# Altium footprint library PX4FMUv2.4.6.PcbLib: 53 footprints (part 2 of 4)
Each footprint in its own frame and in the unit in brackets; x right, y up, seen from the top. Pads: shape width x height; smd on the part's side, far side on the other; paste and mask are expansions set on the pad; w line width, h text height; cw(c..) or ccw(c..) is an arc to the next point about the centre after c.
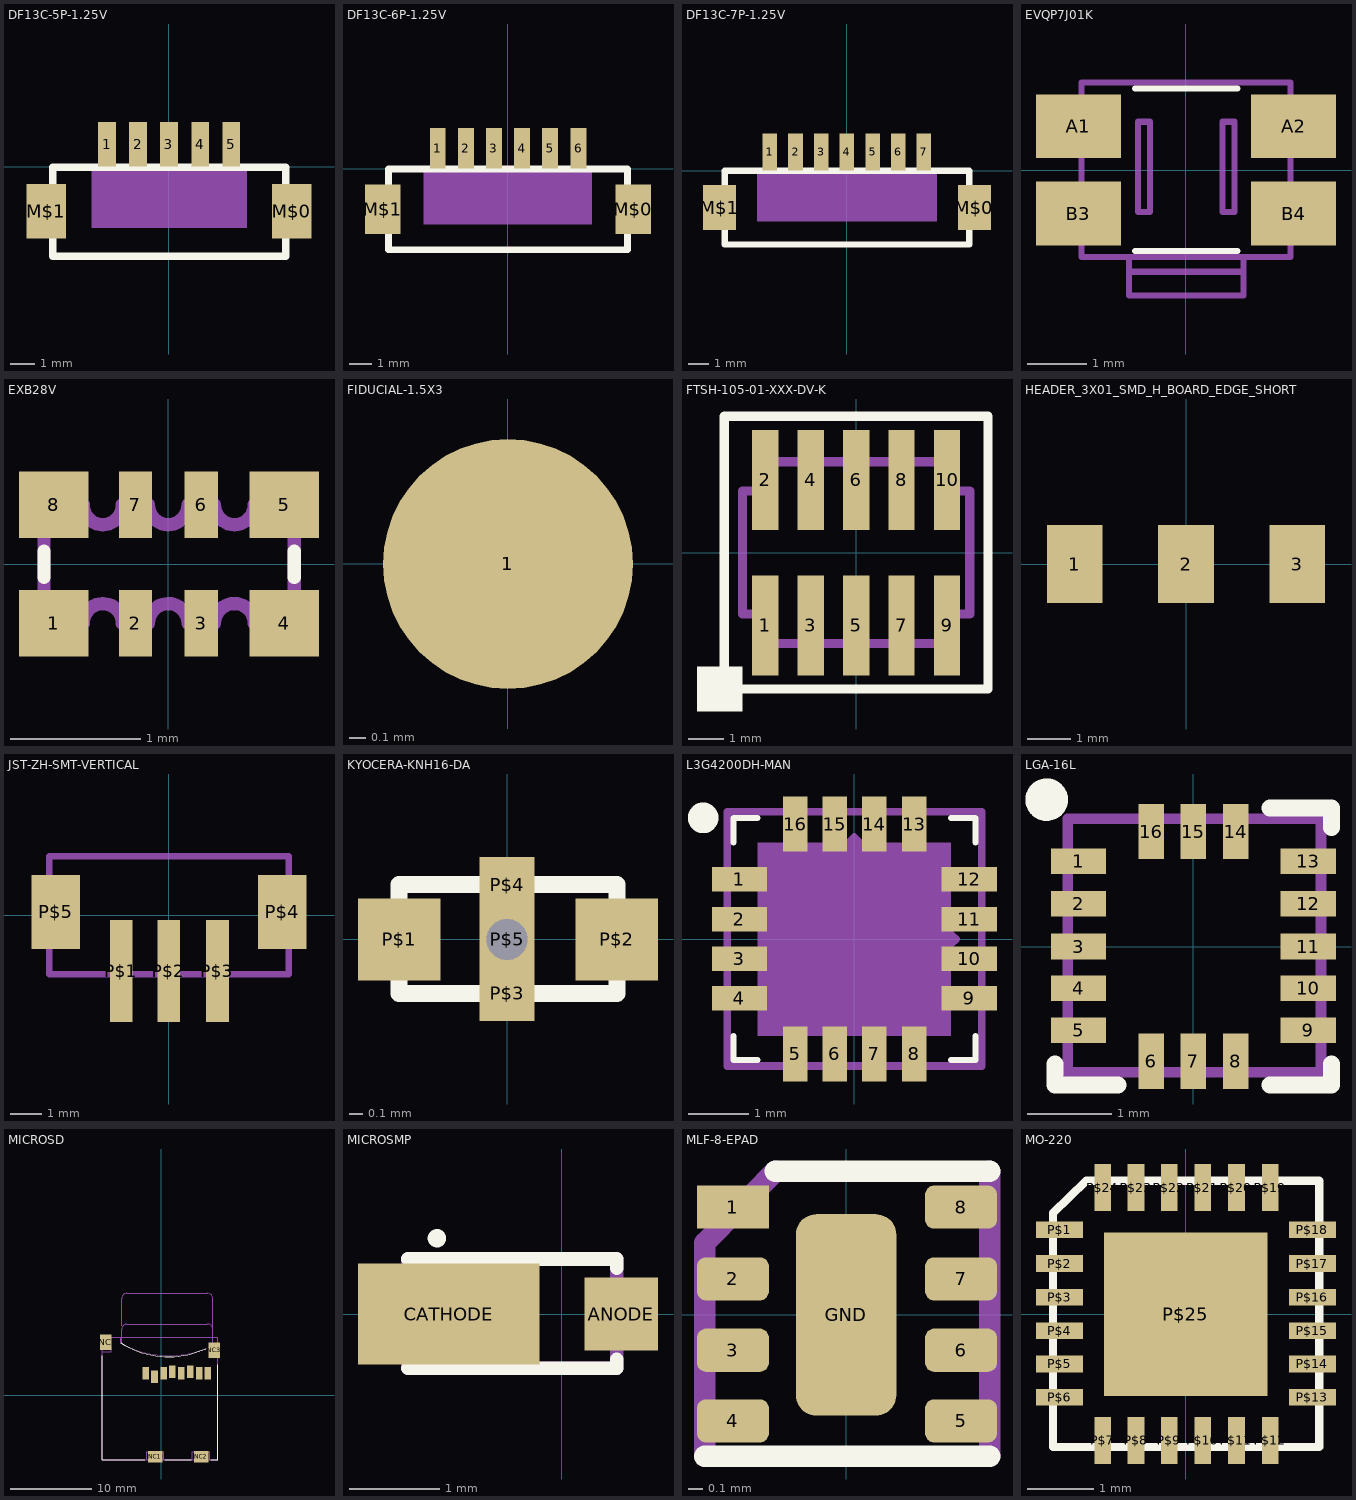
[diagram p1: the footprints below, top view; thin cyan lines are the x and y axes]

## DF13C-5P-1.25V [mil] "DF13C-5P-1.25V"
pads (7):
  rect 28x71 smd: 1(-98.43,36) 2(-49.21,36) 3(0,36) 4(50,36) 5(99,36)
  rect 63x87 smd: M$0(195,-70.87) M$1(-194.88,-70.87)
Top Overlay:
  lines w12: -185.04,-142.13 186,-142.13 186,-0.39 -185.04,-0.39 -185.04,-142.13
  text "." at -161.42,61 h155
Mechanical 16:
  rectangle: -123.03,-97.24 124,-3.94

## DF13C-6P-1.25V [mil] "DF13C-6P-1.25V"
pads (8):
  rect 28x71 smd: 1(-123.03,36) 2(-73.82,36) 3(-24.61,36) 4(25,36) 5(74,36) 6(124,36)
  rect 63x87 smd: M$0(220,-70.87) M$1(-219.49,-70.87)
Top Overlay:
  lines w12: -209.65,-141.73 210,-141.73 210,0 -209.65,0 -209.65,-141.73
  text "." at -186.02,61 h155
Mechanical 16:
  rectangle: -147.64,-97.44 148,-3.94

## DF13C-7P-1.25V [mil] "DF13C-7P-1.25V"
pads (9):
  rect 28x71 smd: 1(-147.64,36) 2(-98.43,36) 3(-49.21,36) 4(0,36) 5(50,36) 6(99,36) 7(148,36)
  rect 63x87 smd: M$0(245,-70.87) M$1(-244.09,-70.87)
Top Overlay:
  lines w12: -234.25,-142.13 235,-142.13 235,-0.39 -234.25,-0.39 -234.25,-142.13
  text "." at -210.63,61 h155
Mechanical 16:
  rectangle: -172.24,-97.24 173,-3.94

## EVQP7J01K [mil] "EVQP7J01K"
pads (4):
  rect 56x42 smd: A1(-70.87,29) A2(71,29) B3(-70.87,-28.54) B4(71,-28.54)
Top Overlay:
  lines w4: -82.68,20 -82.68,24 ; -33.46,-53.15 34,-53.15 ; -33.46,54 34,54
Mechanical 16:
  lines w4: -82.68,20 -70.87,20 ; -82.68,24 -90.55,24 -90.55,40 -70.87,40 ; -70.87,-39.37 -90.55,-39.37 -90.55,-23.62 -82.68,-23.62 -82.68,-19.68 -70.87,-19.68 ; 38,-66.93 -37.4,-66.93 ; 71,-39.37 91,-39.37 91,-23.62 83,-23.62 83,-19.68 71,-19.68 ; 71,20 83,20 83,24 91,24 91,40 71,40 ; -37.4,-66.93 -37.4,-82.68 38,-82.68 38,-57.09 ; -37.4,-66.93 -37.4,-57.09 ; -37.4,-57.09 -68.9,-57.09 -68.9,58 69,58 69,-57.09 38,-57.09 ; -37.4,-57.09 38,-57.09 ; -31.5,-27.56 -31.5,32 -23.62,32 -23.62,-27.56 -31.5,-27.56 ; 24,-27.56 24,32 32,32 32,-27.56 24,-27.56

## EXB28V [mil] "EXB28V"
pads (8):
  rect 21x20 smd: 1(-34.45,-17.72) 4(35,-17.72) 5(35,18) 8(-34.45,18)
  rect 10x20 smd: 2(-9.84,-17.72) 3(10,-17.72) 6(10,18) 7(-9.84,18)
Top Overlay:
  lines w4: -37.4,-3.94 -37.4,4 ; 38,-3.94 38,4
Mechanical 16:
  lines w4: -37.4,-17.72 -25.59,-17.72 cw(c-19.68,-17.72) -19.68,-11.81 cw(c-19.68,-17.72) -13.78,-17.72 -5.91,-17.72 cw(c0,-17.72) 0,-11.81 cw(c0.05,-17.76) 6,-17.72 14,-17.72 cw(c19.95,-17.76) 20,-11.81 cw(c20.05,-17.76) 26,-17.72 38,-17.72 38,18 26,18 cw(c20,18) 20,12 cw(c20,18) 14,18 6,18 cw(c0,18) 0,12 cw(c0.05,17.95) -5.91,18 -13.78,18 cw(c-19.73,17.95) -19.68,12 cw(c-19.64,17.95) -25.59,18 -37.4,18 -37.4,-17.72

## FIDUCIAL-1.5X3 [mil] "FIDUCIAL-1.5X3"
pads (1):
  rrect100% 60x60 smd: 1(0,0)
Top Solder:
  circle w50: c0,0 r36

## FTSH-105-01-XXX-DV-K [mil] "FTSH-105-01-XXX-DV-K"
pads (10):
  rect 29x110 smd: 1(-100,-80) 2(-100,80) 3(-50,-80) 4(-50,80) 5(0,-80) 6(0,80) 7(50,-80) 8(50,80) 9(100,-80) 10(100,80)
Top Overlay:
  rectangle: -175,-175 -125,-125
  lines w10: -145,-150 -145,150 145,150 145,-150 -145,-150
Mechanical 16:
  lines w10: -125,-67.48 -100,-67.48 -100,-100 100,-100 100,-67.48 125,-67.48 125,68 100,68 100,100 -100,100 -100,68 -125,68 -125,-67.48

## HEADER_3X01_SMD_H_BOARD_EDGE_SHORT [mil] "HEADER_3X01_SMD_H_BOARD_EDGE_SHORT"
pads (3):
  rect 50x70 smd: 1(-100,0) 2(0,0) 3(100,0)

## JST-ZH-SMT-VERTICAL [mil] "JST-ZH-SMT-VERTICAL"
pads (5):
  rect 28x126 smd: P$1(-59.06,-68.9) P$2(0,-68.9) P$3(60,-68.9)
  rect 60x91 smd: P$4(140,4) P$5(-139.76,4)
Mechanical 16:
  lines w8: -147.64,-72.83 148,-72.83 148,73 -147.64,73 -147.64,-72.83

## KYOCERA-KNH16-DA [mil] "KYOCERA-KNH16-DA"
pads (5):
  rect 24x24 smd: P$1(-31.5,0) P$2(32,0)
  rect 16x16 smd: P$3(0,-15.75) P$4(0,16)
  rect 16x16 hole 12: P$5(0,0)
Top Overlay:
  lines w5: -31.5,-15.75 -31.5,16 32,16 32,-15.75 -31.5,-15.75

## L3G4200DH-MAN [mil] "L3G4200DH-MAN"
pads (16):
  rect 36x16 smd: 1(-74.8,39) 2(-74.8,13) 3(-74.8,-12.8) 4(-74.8,-38.39) 9(75,-38.39) 10(75,-12.8) 11(75,13) 12(75,39)
  rect 16x36 smd: 5(-38.39,-74.8) 6(-12.8,-74.8) 7(13,-74.8) 8(39,-74.8) 13(39,75) 14(13,75) 15(-12.8,75) 16(-38.39,75)
Top Overlay:
  circle w12: c-98.43,79 r4
  lines w4: -78.74,-62.99 -78.74,-78.74 ; -78.74,63 -78.74,79 -62.99,79 ; 63,-78.74 79,-78.74 79,-62.99 ; 63,79 79,79 79,63 ; -78.74,-78.74 -62.99,-78.74 -78.74,-78.74
Mechanical 8:
  rectangle: -62.99,-62.99 63,63
Mechanical 16:
  circle w4: c0,0 r8
  lines w1: -82.68,-82.68 83,-82.68 83,83 -82.68,83 -82.68,-82.68
  lines w4: -15.75,32 cw(c0.13,32) 16,32 ; 8,-11.81 ccw(c-0.92,0.03) -15.75,0 ; 28,12 cw(c31.97,0.09) 28,-11.81 ; -15.75,0 -19.68,4 -11.81,4 -15.75,0 ; 0,67 0,0 67,0 ; 0,67 4,63 -3.94,63 0,67 ; 16,32 12,36 20,36 16,32 ; 28,-11.81 32,-7.87 32,-15.75 28,-11.81 ; 67,0 63,4 63,-3.94 67,0
  lines w5: -82.68,-82.68 83,-82.68 ; -82.68,-82.68 -82.68,83 ; -82.68,-82.68 83,-82.68 ; -82.68,-82.68 -82.68,83 ; -82.68,83 83,83 ; -82.68,83 83,83 ; 83,-82.68 83,83 ; 83,-82.68 83,83
  text "X" at 52,-27.56 h17
  text "Y" at -23.62,52 h17
  text "Z" at -27.56,-27.56 h17

## LGA-16L [mil] "LGA-16L"
pads (16):
  rect 26x12 smd: 1(-53.94,40) 2(-53.94,20) 3(-53.94,0) 4(-53.94,-19.68) 5(-53.94,-39.37) 9(54,-39.37) 10(54,-19.68) 11(54,0) 12(54,20) 13(54,40)
  rect 12x26 smd: 6(-19.68,-53.94) 7(0,-53.94) 8(20,-53.94) 14(20,54) 15(0,54) 16(-19.68,54)
Top Overlay:
  circle w10: c-68.9,69 r5
  lines w8: -64.96,-55.12 -64.96,-64.96 -35.43,-64.96 ; 36,-64.96 65,-64.96 65,-55.12 ; 36,65 65,65 65,56
Mechanical 16:
  lines w5: -59.06,-59.06 60,-59.06 60,60 -59.06,60 -59.06,-59.06

## MICROSD [mil] "MICROSD"
pads (12):
  rect 32x60 smd: 1(-76.38,107) 2(-33.07,91) 3(11,107) 4(54,115) 5(97,107) 6(141,115) 7(184,107) 8(227,107)
  rect 56x75 smd: NC(-269.69,258) NC3(258,219)
  rect 71x56 smd: NC1(-29.53,-299.21) NC2(195,-299.21)
Top Overlay:
  lines w5: -287.4,193 -287.4,-314.96 -80.71,-314.96 ; -196.85,256 ccw(c35.12,618.63) 216,228 ; 17,-314.96 145,-314.96 ; 242,-314.96 276,-314.96 276,150
Mechanical 16:
  lines w0: -192.91,252 -192.91,322 cw(c-167.81,321.9) -167.7,347 225,347 cw(c224.5,319.5) 252,319 252,249 ; -192.91,339 -192.91,471 cw(c-167.31,471.4) -167.7,497 225,497 cw(c224.5,469.5) 252,469 252,331
  lines w4: -287.4,-314.96 276,-314.96 276,284 -287.4,284 -287.4,-314.96
  lines w5: -287.4,-314.96 -287.4,213 -244.09,213 -244.09,233 -287.4,233 -287.4,284 -196.85,284 -196.85,256 ccw(c37.61,660) 252,245 256,249 276,249 276,-314.96 237,-314.96 237,-275.59 221,-275.59 221,-314.96 162,-314.96 162,-275.59 150,-275.59 150,-314.96 12,-314.96 12,-275.59 -3.94,-275.59 -3.94,-314.96 -59.06,-314.96 -59.06,-275.59 -70.87,-275.59 -70.87,-314.96 -287.4,-314.96
Mechanical 30:
  text "card IN" at -27.56,308 h49.6
  text "card OUT" at -51.18,457 h49.6

## MICROSMP [mil] "MICROSMP"
pads (2):
  rect 32x32 smd: ANODE(26,0)
  rect 79x44 smd: CATHODE(-49.21,0)
Top Overlay:
  circle w4: c-54.33,33 r2
  lines w6: -66.93,-23.62 24,-23.62 24,-19.68 ; -66.93,24 24,24 24,20
Mechanical 16:
  rectangle: -74.8,-17.72 -68.9,18
  rectangle: 26,-11.81 30,12
  rectangle: -59.06,-21.65 -49.21,22
  lines w1: -66.93,-23.62 24,-23.62 24,24 -66.93,24 -66.93,-23.62
  lines w6: -66.93,-23.62 24,-23.62 24,24 -66.93,24 -66.93,-23.62

## MLF-8-EPAD [mil] "MLF-8-EPAD"
pads (9):
  rect 20x12 smd: 1(-31.5,30)
  rrect40% 20x12 smd: 2(-31.5,10) 3(-31.5,-9.84) 4(-31.5,-29.53) 5(32,-29.53) 6(32,-9.84) 7(32,10) 8(32,30)
  rrect40% 28x56 smd: GND(0,0)
Top Overlay:
  lines w6: -39.37,-39.37 40,-39.37 ; -19.68,40 40,40
Mechanical 16:
  lines w6: -39.37,-39.37 -39.37,20 -19.68,40 ; 40,-39.37 40,40

## MO-220 [mil] "MO-220"
pads (25):
  rect 28x10 smd: P$1(-74.8,50) P$2(-74.8,30) P$3(-74.8,10) P$4(-74.8,-9.84) P$5(-74.8,-29.53) P$6(-74.8,-49.21) P$13(75,-49.21) P$14(75,-29.53) P$15(75,-9.84) P$16(75,10) P$17(75,30) P$18(75,50)
  rect 10x28 smd: P$7(-49.21,-74.8) P$8(-29.53,-74.8) P$9(-9.84,-74.8) P$10(10,-74.8) P$11(30,-74.8) P$12(50,-74.8) P$19(50,75) P$20(30,75) P$21(10,75) P$22(-9.84,75) P$23(-29.53,75) P$24(-49.21,75)
  rect 97x97 smd: P$25(0,0)
Top Overlay:
  lines w5: -78.74,-78.74 -78.74,60 -59.06,79 79,79 79,-78.74 -78.74,-78.74
Top Paste:
  rectangle: -19.68,-19.68 20,20